# EAGLE library part RT8010A (library Richtek-RT8010A)
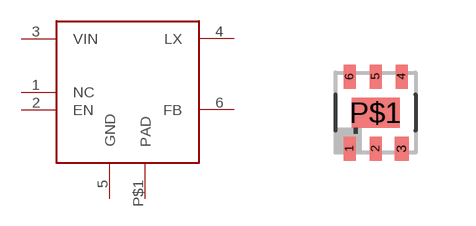
[diagram p0: symbol with the pads of UDFN8; footprint UDFN8]

Designator prefix -

## RT8010A  [UDFN8]
1  NC
2  EN
3  VIN
4  LX
5  GND
6  FB
P$1  PAD

## Footprint UDFN8 (pad centres in mm)
uDFN 8 Source: http://datasheets.maxim-ic.com/en/ds/MAX4906-MAX4907F.pdf
smd 0.3 x 0.6: 1 -0.65,-0.9; 2 0,-0.9; 4 0.65,0.9; 5 0,0.9; 6 -0.65,0.9
smd 0.35 x 0.6: 3 0.65,-0.9
smd 1.2 x 0.75: P$1 0,0